# EAGLE library part DFR_TEMP_HUMIDITY (library air_quality_parts)
DFRobot's SHT10 Temperature and humidity sensor Has two sets of 3-wires running from breakout board.
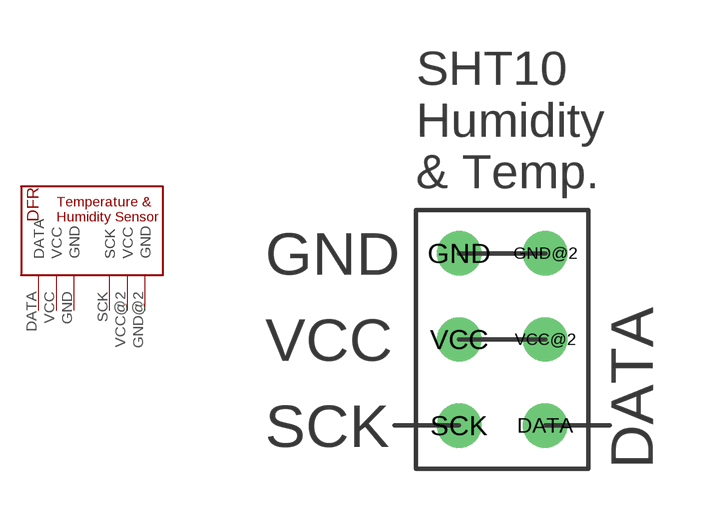
[diagram p4: symbol with the pads of DFR_TEMP_HUMIDITY; footprint DFR_TEMP_HUMIDITY]

Designator prefix -

## DFR_TEMP_HUMIDITY  [DFR_TEMP_HUMIDITY]
DATA  DATA
GND  GND
GND@2  GND
SCK  SCK
VCC  VCC
VCC@2  VCC

## Footprint DFR_TEMP_HUMIDITY (pad centres in mm)
drill 0.8: DATA 1.27,-2.54; GND -1.27,2.54; GND@2 1.27,2.54; SCK -1.27,-2.54; VCC -1.27,0; VCC@2 1.27,0